# Altium schematic symbol library osci.SchLib: 1 symbol
Pins are listed as number, name and electrical type; pins without a type are passive.

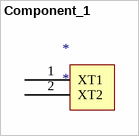
[diagram p0: symbol Component_1]

## Component_1
designator *
footprint TH XT
pins: 1 XT1, 2 XT2